# Altium footprint library 水下机器人电调控制板2020.PcbLib: 54 footprints (part 1 of 4)
Each footprint in its own frame and in the unit in brackets; x right, y up, seen from the top. Pads: shape width x height; smd on the part's side, far side on the other; paste and mask are expansions set on the pad; w line width, h text height; cw(c..) or ccw(c..) is an arc to the next point about the centre after c.
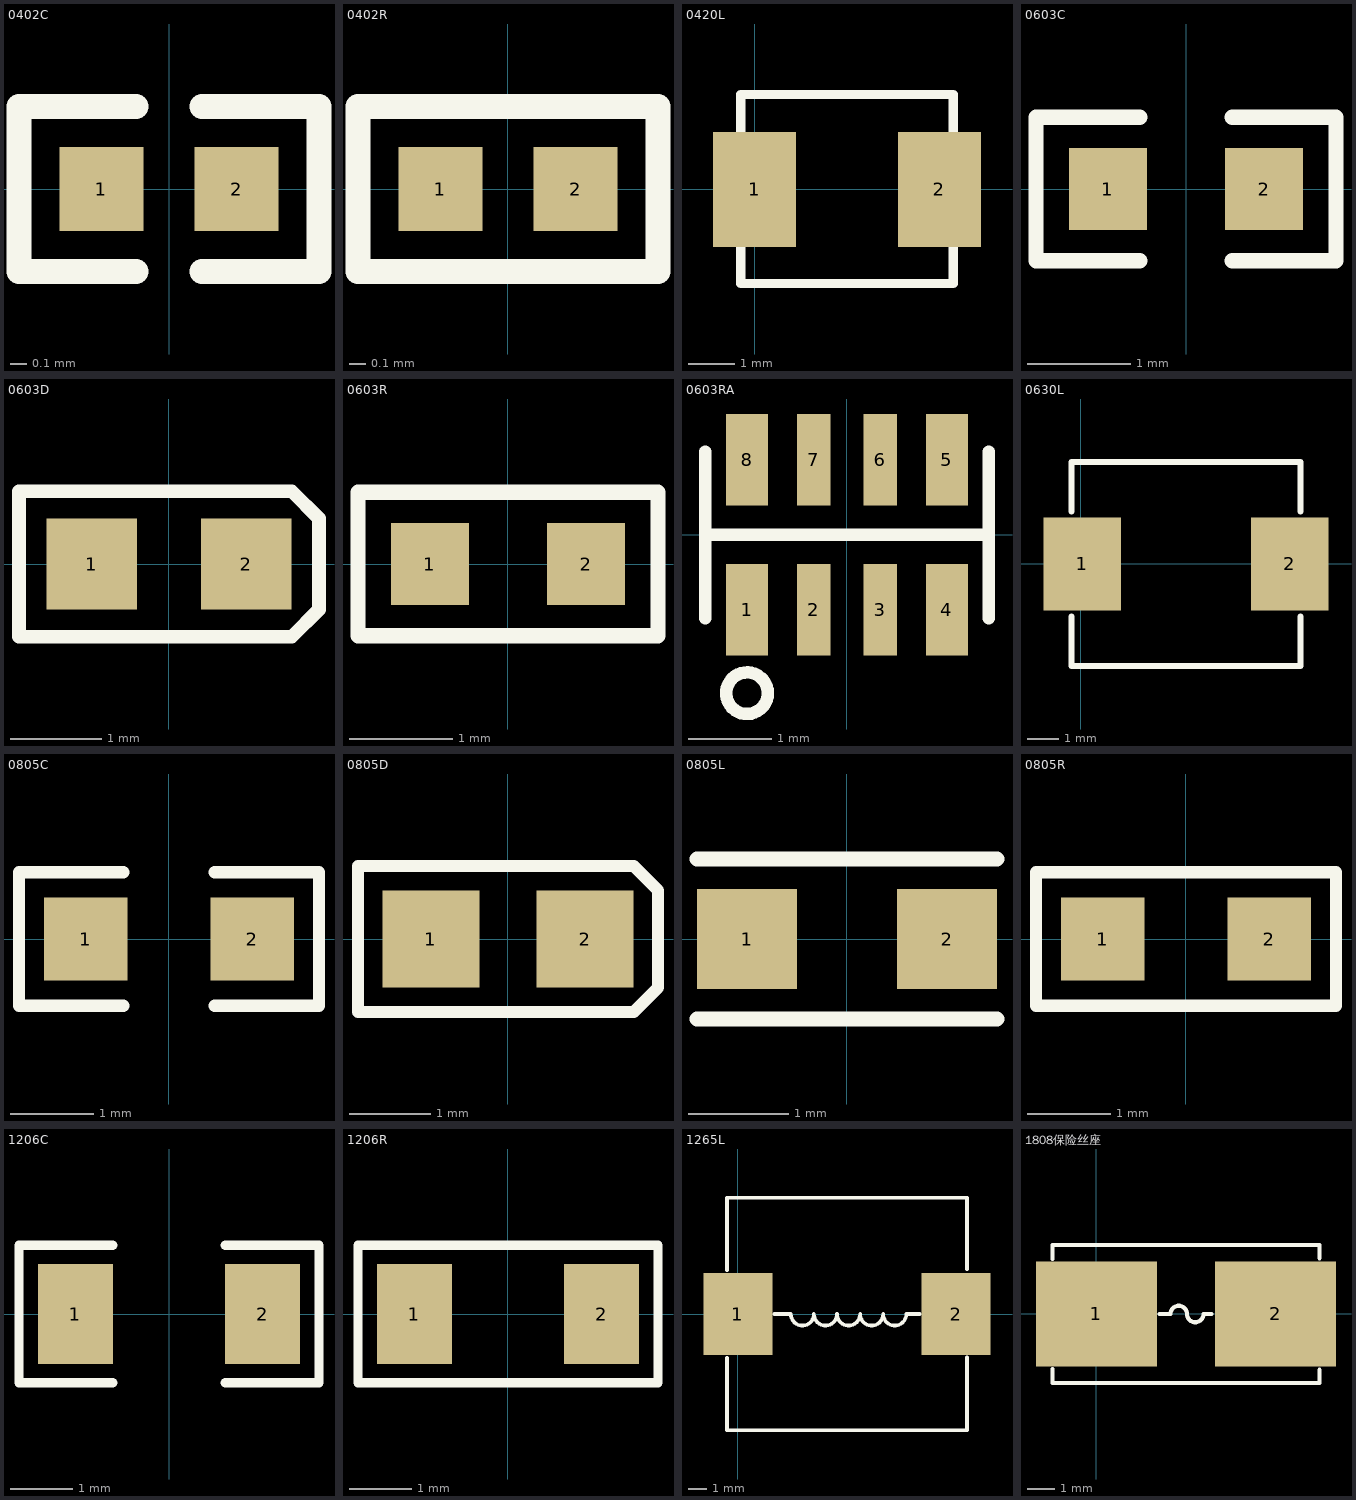
[diagram p0: the footprints below, top view; thin cyan lines are the x and y axes]

## 0402C [mm]
pads (2):
  rect 0.51x0.51 smd: 1(-0.41,0) 2(0.41,0)
Top Overlay:
  lines w0.15: -0.2,-0.5 -0.91,-0.5 -0.91,0.5 -0.2,0.5 ; 0.2,-0.5 0.91,-0.5 0.91,0.5 0.2,0.5

## 0402R [mm]
pads (2):
  rect 0.51x0.51 smd: 1(-0.41,0) 2(0.41,0)
Top Overlay:
  lines w0.15: -0.91,-0.5 -0.91,0.5 0.91,0.5 0.91,-0.5 -0.91,-0.5

## 0420L [mm]
pads (2):
  rect 1.8x2.5 smd: 1(0,0) 2(4,0)
Top Overlay:
  lines w0.2: -0.3,-2.04 -0.3,2.06 4.3,2.06 4.3,-2.04 -0.3,-2.04

## 0603C [mm]
pads (2):
  rect 0.76x0.8 smd: 1(-0.76,0) 2(0.76,0)
Top Overlay:
  lines w0.15: -0.45,-0.7 -1.46,-0.7 -1.46,0.7 -0.45,0.7 ; 0.45,-0.7 1.46,-0.7 1.46,0.7 0.45,0.7

## 0603D [mm]
pads (2):
  rect 1x1 smd: 1(-0.85,0) 2(0.85,0)
Top Overlay:
  lines w0.15: -1.65,-0.8 1.35,-0.8 1.65,-0.5 1.65,0.5 1.35,0.8 -1.65,0.8 -1.65,-0.8

## 0603R [mm]
pads (2):
  rect 0.76x0.8 smd: 1(-0.76,0) 2(0.76,0)
Top Overlay:
  lines w0.15: -1.46,-0.7 -1.46,0.7 1.46,0.7 1.46,-0.7 -1.46,-0.7

## 0603RA [mm]
pads (8):
  rect 0.5x1.1 smd: 1(-1.2,-0.9) 4(1.2,-0.9) 5(1.2,0.9) 8(-1.2,0.9)
  rect 0.4x1.1 smd: 2(-0.4,-0.9) 3(0.4,-0.9) 6(0.4,0.9) 7(-0.4,0.9)
Top Overlay:
  circle w0.15: c-1.2,-1.9 r0.25
  lines w0.15: -1.7,-1 -1.7,1 ; -1.7,0 1.7,0 ; 1.7,-1 1.7,1

## 0630L [mm]
pads (2):
  rect 2.5x3 smd: 1(0.05,0) 2(6.75,0)
Top Overlay:
  lines w0.2: -0.3,-1.7 -0.3,-3.3 7.1,-3.3 7.1,-1.7 ; -0.3,1.7 -0.3,3.3 7.1,3.3 7.1,1.7

## 0805C [mm]
pads (2):
  rect 1x1 smd: 1(-1,0) 2(1,0)
Top Overlay:
  lines w0.15: -0.55,-0.8 -1.8,-0.8 -1.8,0.8 -0.55,0.8 ; 0.55,-0.8 1.8,-0.8 1.8,0.8 0.55,0.8

## 0805D [mm]
pads (2):
  rect 1.2x1.2 smd: 1(-0.95,0) 2(0.95,0)
Top Overlay:
  lines w0.15: -1.85,-0.9 -1.85,0.9 1.55,0.9 1.85,0.6 1.85,-0.6 1.55,-0.9 -1.85,-0.9

## 0805L [mm]
pads (2):
  rect 1x1 smd: 1(-1,0) 2(1,0)
Top Overlay:
  lines w0.15: -1.5,-0.8 1.5,-0.8 ; -1.5,0.8 1.5,0.8

## 0805R [mm]
pads (2):
  rect 1x1 smd: 1(-1,0) 2(1,0)
Top Overlay:
  lines w0.15: -1.8,-0.8 1.8,-0.8 1.8,0.8 -1.8,0.8 -1.8,-0.8

## 1206C [mm]
pads (2):
  rect 1.2x1.6 smd: 1(-1.5,0) 2(1.5,0)
Top Overlay:
  lines w0.15: -0.9,-1.1 -2.4,-1.1 -2.4,1.1 -0.9,1.1 ; 0.9,-1.1 2.4,-1.1 2.4,1.1 0.9,1.1

## 1206R [mm]
pads (2):
  rect 1.2x1.6 smd: 1(-1.5,0) 2(1.5,0)
Top Overlay:
  lines w0.15: -2.4,-1.1 2.4,-1.1 2.4,1.1 -2.4,1.1 -2.4,-1.1

## 1265L [mm]
pads (2):
  rect 3.8x4.5 smd: 1(0,0) 2(12,0)
Top Overlay:
  lines w0.2: -0.6,-2.413 -0.6,-6.4 12.6,-6.4 ; -0.6,2.413 -0.6,6.4 12.6,6.4 12.6,2.456 ; 2,0 2.91,0 ccw(c3.545,0) 4.18,0 ccw(c4.815,0) 5.45,0 ccw(c6.085,0) 6.72,0 ccw(c7.355,0) 7.99,0 ccw(c8.625,0) 9.26,0 10,0 ; 12.6,-6.393 12.6,-2.37

## 1808保险丝座 [mm]
pads (2):
  rect 4.4x3.81 smd: 1(0,0) 2(6.53,0)
Top Overlay:
  lines w0.15: -1.6,-2 -1.6,-2.515 8.13,-2.515 8.13,-2.03 ; -1.6,2 -1.6,2.515 8.13,2.515 8.13,2.03 ; 2.3,0 2.7,0 cw(c3,0) 3.3,0 ccw(c3.6,0) 3.9,0 4.2,0